# Altium footprint library Condensateur.PcbLib: 1 footprints
Each footprint in its own frame and in the unit in brackets; x right, y up, seen from the top. Pads: shape width x height; smd on the part's side, far side on the other; paste and mask are expansions set on the pad; w line width, h text height; cw(c..) or ccw(c..) is an arc to the next point about the centre after c.
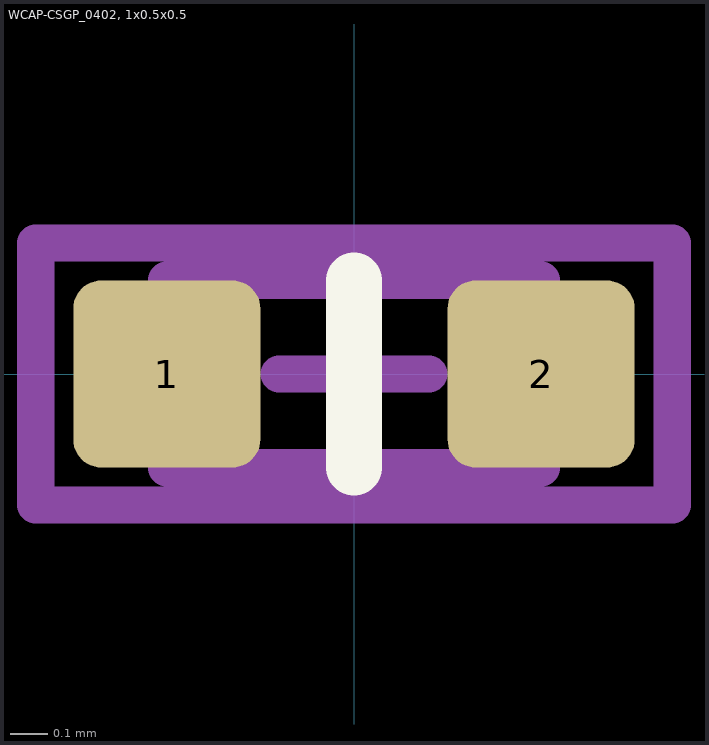
[diagram p0: the footprint, top view; thin cyan lines are the x and y axes]

## WCAP-CSGP_0402, 1x0.5x0.5 [mm] "WCAP-CSGP Ceramic Capacitors, size 0402, body 1x0.5x0.5"
height 0.5
pads (2):
  rrect30% 0.5x0.5 smd: 1(-0.5,0) 2(0.5,0)
Top Overlay:
  lines w0.15: 0,-0.25 0,0.25
Mechanical 13:
  lines w0.1: -0.5,-0.25 0.5,-0.25 0.5,0.25 -0.5,0.25 -0.5,-0.25
Mechanical 15:
  lines w0.1: -0.2,0 0.2,0 ; 0,-0.2 0,0.2 ; -0.85,-0.35 -0.85,0.35 0.85,0.35 0.85,-0.35 -0.85,-0.35
Mechanical 17 (Mech17):
  text ".Designator" at -0.4,-0.2 h0.6
3D body "User Library-CAPC1005X___.STEP": height 0.52, standoff 0, extent -0.501,-0.258 0.499,0.262